# Altium integrated library 科协.IntLib: 7 symbols
Pins are listed as number, name and electrical type; pins without a type are passive.

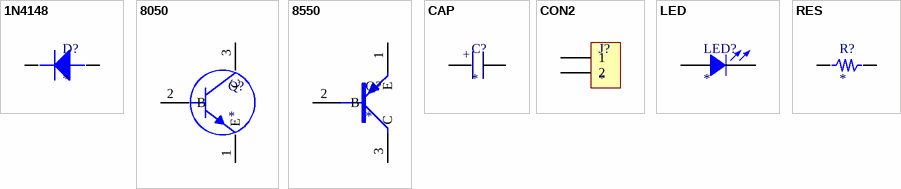
[diagram p0: symbols 1N4148 to RES]

## 1N4148
designator D?
footprint DIO
pins: 1 +, 2 -

## 8050
designator Q?
footprint TO92
pins: 1 E, 2 B, 3 C

## 8550
designator Q?
footprint TO92
pins: 1 E, 2 B, 3 C

## CAP
designator C?
footprint CAP
pins: 1, 2
text: +

## CON2
designator J?
footprint CON2
pins: 1, 2

## LED
designator LED?
footprint LED
pins: 1 ANODE, 2 CATHODE

## RES
designator R?
footprint RES
pins: 1, 2